# Altium schematic symbol library arduino uno.SchLib: 1 symbol
Pins are listed as number, name and electrical type; pins without a type are passive.

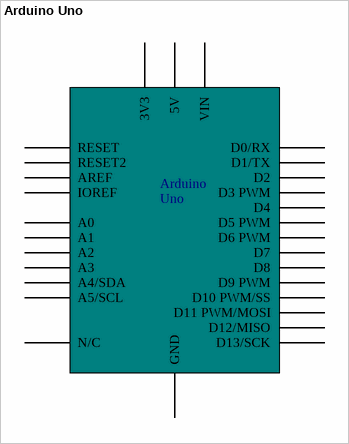
[diagram p0: symbol Arduino Uno]

## Arduino Uno
designator Arduino Uno  (value not drawn)
pins: ?1 3V3, ?2 5V, ?3 VIN, ?4 D0/RX, ?5 D1/TX, ?6 D2, ?7 D3 PWM, ?8 D4, ?9 D5 PWM, ?10 D6 PWM, ?11 D7, ?12 D8, ?13 D9 PWM, ?14 D10 PWM/SS, ?15 D11 PWM/MOSI, ?16 D12/MISO, ?17 D13/SCK, ?18 RESET, ?19 RESET2, ?20 AREF, ?21 IOREF, ?22 A0, ?23 A1, ?24 A2, ?25 A3, ?26 A4/SDA, ?27 A5/SCL, ?28 N/C, ?29 GND
text: Arduino; Uno